# Altium footprint library PBH2UOANAGX.PcbLib: 1 footprints
Each footprint in its own frame and in the unit in brackets; x right, y up, seen from the top. Pads: shape width x height; smd on the part's side, far side on the other; paste and mask are expansions set on the pad; w line width, h text height; cw(c..) or ccw(c..) is an arc to the next point about the centre after c.
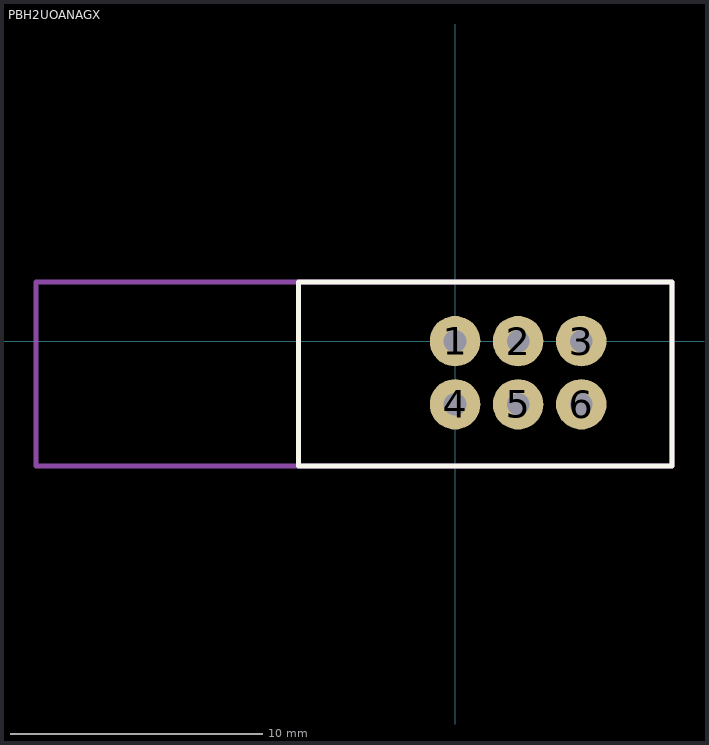
[diagram p0: the footprint, top view; thin cyan lines are the x and y axes]

## PBH2UOANAGX [mm]
pads (6):
  round 2 hole 0.9: 1(0,0) 2(2.5,0) 3(5,0) 4(0,-2.5) 5(2.5,-2.5) 6(5,-2.5)
Top Overlay:
  lines w0.2: -6.2,-4.95 -6.2,2.35 8.6,2.35 8.6,-4.95 -6.2,-4.95
Top Assembly:
  lines w0.2: -16.6,-4.95 -16.6,2.35 8.6,2.35 8.6,-4.95 -16.6,-4.95
  text "'.Designator'" at -0.25,-1.525 h0.7
3D body "PBH2UxxNAGX.stp": height 9.15, standoff -4, extent -16.6,-4.95 8.6,2.35